# Altium schematic symbol library DCM290P138T600A40.SchLib: 1 symbol
Pins are listed as number, name and electrical type; pins without a type are passive.

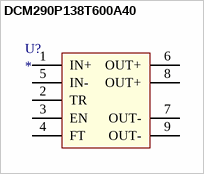
[diagram p0: symbol DCM290P138T600A40]

## DCM290P138T600A40
designator U?
pins: 1 IN+ (power), 2 TR (power), 3 EN (power), 4 FT (power), 5 IN- (power), 6 OUT+ (power), 7 OUT- (power), 8 OUT+ (power), 9 OUT- (power)